# Altium schematic symbol library ADM4073.SchLib: 1 symbol
Pins are listed as number, name and electrical type; pins without a type are passive.

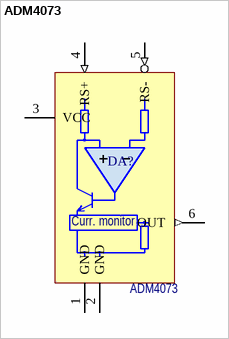
[diagram p0: symbol ADM4073]

## ADM4073
designator DA?
Current-sense amplifier; Потребление, Вт: 0.0; Назначение: Current-sense amplifier; ComponentLink1Description: DataSheet; ComponentLink1URL: https://www.analog.com/media/en/technical-documentation/data-sheets/ADM4073.pdf; Наименование: ADM4073
footprint SOT23-6
pins: 1 GND (power), 2 GND (power), 3 VCC (power), 4 RS+ (in), 5 RS- (in), 6 OUT (out)
text: Curr. monitor